# Altium schematic symbol library SnapEDAsch.SchLib: 1 symbol
Pins are listed as number, name and electrical type; pins without a type are passive.

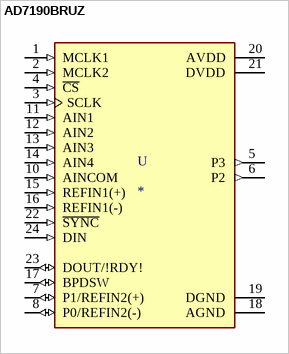
[diagram p0: symbol AD7190BRUZ]

## AD7190BRUZ
designator U
24 Bit Analog to Digital Converter 2, 4 Input 1 Sigma-Delta 24-TSSOP; MP: AD7190BRUZ; MF: Analog Devices; SnapEDA_Link: https://www.snapeda.com/parts/AD7190BRUZ/Analog%20Devices%20Inc./view-part/228083/?ref=snap; Value: *; Availability: Unavailable; Package: TSSOP-24 Analog Devices; Price: None
footprint SOP65P640X120-24N
pins: 1 MCLK1 (in), 2 MCLK2 (in), 3 SCLK (in), 4 ~{CS} (in), 5 P3 (out), 6 P2 (out), 7 P1/REFIN2(+) (io), 8 P0/REFIN2(-) (io), 10 AINCOM (in), 11 AIN1 (in), 12 AIN2 (in), 13 AIN3 (in), 14 AIN4 (in), 15 REFIN1(+) (in), 16 REFIN1(-) (in), 17 BPDSW (io), 18 AGND (power), 19 DGND (power), 20 AVDD (power), 21 DVDD (power), 22 ~{SYNC} (in), 23 DOUT/!RDY! (io), 24 DIN (in)